# Altium schematic symbol library biblioteka.SchLib: 10 symbols
Pins are listed as number, name and electrical type; pins without a type are passive.

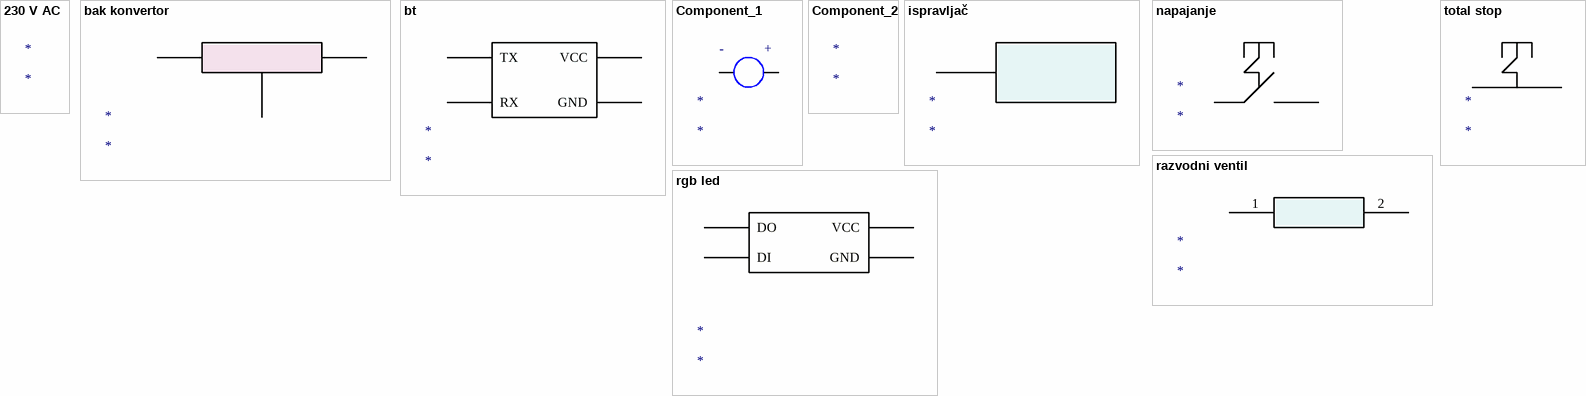
[diagram p0: symbols 230 V AC to total stop]

## 230 V AC
designator *

## bak konvertor
designator *
pins: ?1, ?2, ?3

## bt
designator *
pins: ?1 VCC, ?2 GND, ?3 RX, ?4 TX

## Component_1
designator *
text: -; +

## Component_2
designator *

## ispravljač
designator *

## napajanje
designator *
pins: ?1

## razvodni ventil
designator *
pins: 1, 2

## rgb led
designator *
pins: ?1 VCC, ?2 DI, ?3 GND, ?4 DO

## total stop
designator *